# Altium footprint library PcbLib1.PcbLib: 3 footprints
Each footprint in its own frame and in the unit in brackets; x right, y up, seen from the top. Pads: shape width x height; smd on the part's side, far side on the other; paste and mask are expansions set on the pad; w line width, h text height; cw(c..) or ccw(c..) is an arc to the next point about the centre after c.
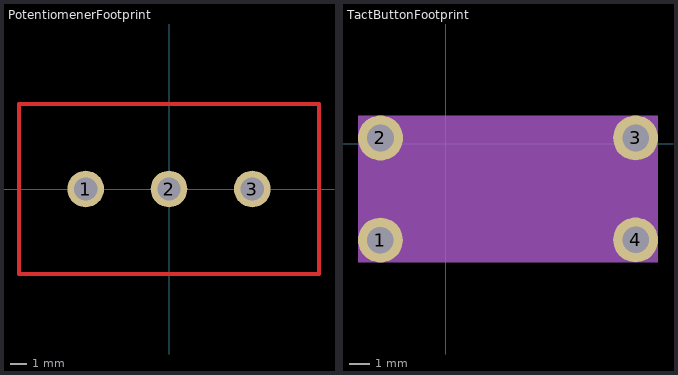
[diagram p0: the footprints below, top view; thin cyan lines are the x and y axes]

## PotentiomenerFootprint [mm]
pads (3):
  round 2.2 hole 1.4: 1(-5,0) 2(0,0) 3(5,0)
Top Layer:
  lines w0.254: -9,-5.1 -9,5.1 9,5.1 9,-5.1 -9,-5.1
3D body "R16148-1A-2-B1K--3DModel-STEP-510211.STEP": height 21.09, standoff -4, extent -8.55,-18.79 8.45,5.41

## PS_ButtonFootprint [mm]

## TactButtonFootprint [mm]
pads (4):
  round 2.2 hole 1.3: 1(-3.212,-4.71) 2(-3.209,0.289) 3(9.289,0.29) 4(9.289,-4.707)
Mechanical 1:
  rectangle: -4.31,-5.81 10.39,1.39
  lines w0.254: 9.289,0.289 9.289,0.29 ; 9.289,0.289 9.289,0.29
3D body "omron_b3f_tactile_switch_with_circular_cap.stp": height 12.55, standoff -3.54, extent -3.815,-8.689 9.827,4.24